# EAGLE library part MC14490PG (library ON_Semiconductor_By_element14_Batch_1)
Hex Contact Bounce Eliminator
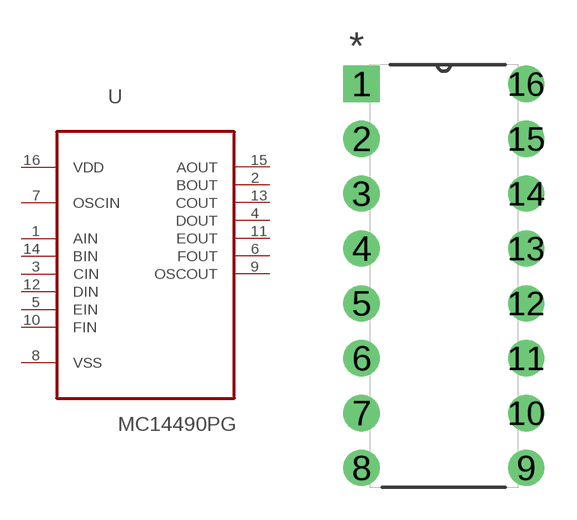
[diagram p271: symbol with the pads of DIP254P762X444-16; footprint DIP254P762X444-16]

Designator prefix U

## MC14490PG (MPN: MC14490PG; OC_FARNELL: 9664947; OC_NEWARK: 45J1099; PACKAGE: PDIP-16; SUPPLIER: ON SEMICONDUCTOR)  [DIP254P762X444-16]
1  AIN  in
2  BOUT  out
3  CIN  in
4  DOUT  out
5  EIN  in
6  FOUT  out
7  OSCIN  in
8  VSS  pas
9  OSCOUT  out
10  FIN  in
11  EOUT  out
12  DIN  in
13  COUT  out
14  BIN  in
15  AOUT  out
16  VDD  pwr

## Footprint DIP254P762X444-16 (pad centres in mm)
drill 1.118 square: 1 -7.62,17.78
drill 1.118: 2 -7.62,15.24; 3 -7.62,12.7; 4 -7.62,10.16; 5 -7.62,7.62; 6 -7.62,5.08; 7 -7.62,2.54; 8 -7.62,0; 9 0,0; 10 0,2.54; 11 0,5.08; 12 0,7.62; 13 0,10.16; 14 0,12.7; 15 0,15.24; 16 0,17.78